# Altium schematic symbol library Schematic Diagrams_Lights.SchLib: 171 symbols (part 2 of 4)
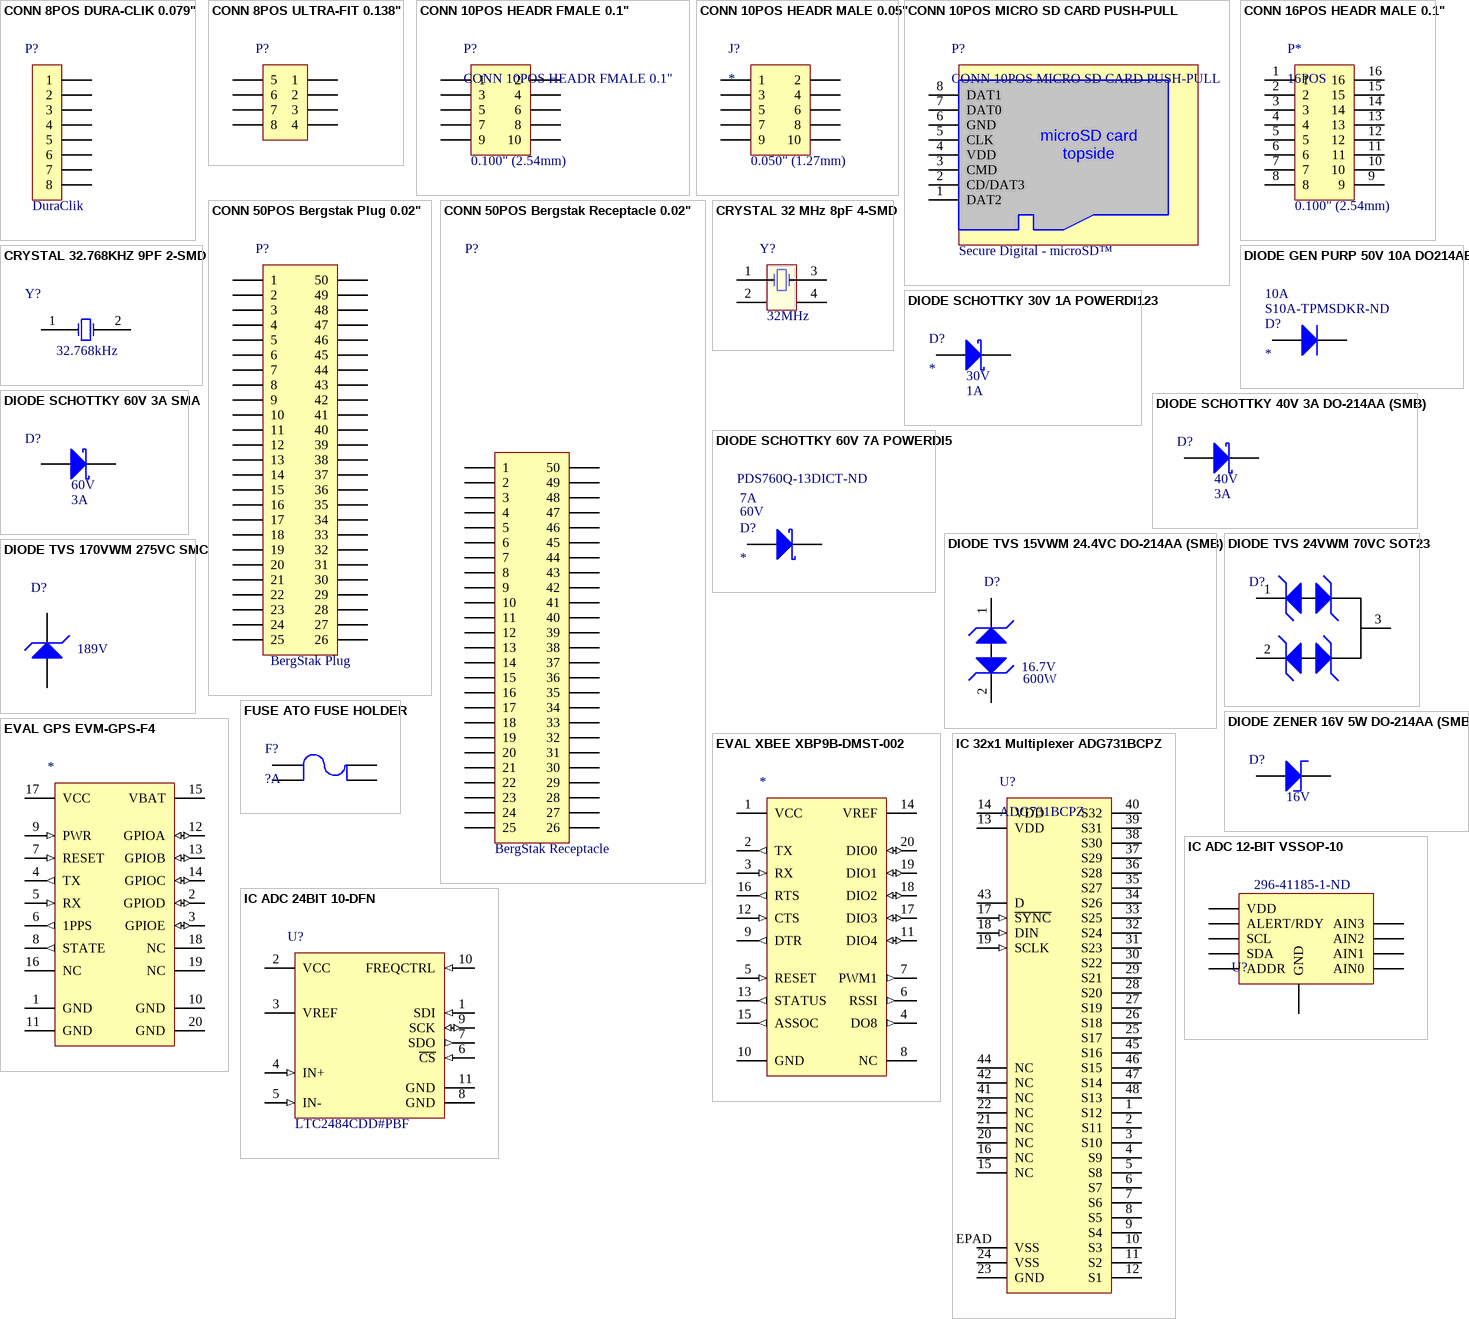
[diagram p6: symbols CONN 8POS DURA-CLIK 0.079" to IC ADC 24BIT 10-DFN]

## CONN 8POS ULTRA-FIT 0.138"
designator P?  (value not drawn)
8 Positions Header Connector 0.138" (3.50mm) Through Hole Tin; Manufacturer: Molex, LLC; Manufacturer Part Number: 1722991108; Style: Board to Cable/Wire; Shrouding: Shrouded - 4 Wall; Number of Positions: 8; Number of Positions Loaded: All; Row Spacing - Mating: 0.181" (4.60mm); Contact Length - Post: 0.126" (3.20mm); Material Flammability Rating: UL94 V-0; Voltage Rating: 400V; Mated Stacking Heights: 26.99mm; Supplier 1: Digi-Key; RoHS: RoHS Compliant; Category: Connectors, Interconnects; Stock 1: 60; Pricing 1: 1=2.12, 10=1.923, 50=1.7262, 100=1.6478, 250=1.49084, 500=1.37314, 1000=1.17697, 2500=1.0985, 5000=1.04358 (CAD); Packaging: Tray; Part Status: Active; Connector Type: Header; Contact Type: Male Pin; Pitch - Mating: 0.138" (3.50mm); Number of Rows: 2; Mounting Type: Through Hole; Termination: Solder; Fastening Type: Latch Holder; Contact Length - Mating: -; Overall Contact Length: -; Insulation Height: 0.465" (11.80mm); Contact Shape: Square; Contact Finish - Mating: Tin; Contact Finish Thickness - Mating: 60µin (1.52µm); Contact Finish - Post: Tin; Contact Material: Copper Alloy; Insulation Material: Liquid Crystal Polymer (LCP); Features: Board Guide, Solder Retention; Operating Temperature: -40°C ~ 105°C; Ingress Protection: -; Insulation Color: Black; Current Rating: -; Contact Finish Thickness - Post: 60µin (1.52µm); Applications: Automotive, General Purpose, Industrial, Lighting, Medical, Military, Telecommunications; ComponentLink1URL: http://www.molex.com/pdm_docs/sd/1722991108_sd.pdf; ComponentLink1Description: http://www.molex.com/pdm_docs/sd/1722991108_sd.pdf; Supplier Part Number 1: WM11779-ND
footprint CONN, 8POS ULTRA-FIT
pins: 1, 2, 3, 4, 5, 6, 7, 8

## CONN 10POS HEADR FMALE 0.1"
designator P?  Pitch - Mating: 0.100" (2.54mm)
10 Position Header Connector 0.100" (2.54mm) Through Hole, Right Angle Gold; Manufacturer 1: Sullins Connector Solutions; Manufacturer Part Number 1: SFH11-PBPC-D05-RA-BK; Style: Board to Board; Number of Positions: 10; Number of Positions Loaded: All; Contact Length - Post: 0.106" (2.69mm); Material Flammability Rating: UL94 V-0; Current Rating: 3A; Supplier 1: Digi-Key; Supplier Part Number 1: S9202-ND; Packaging: Tray; Part Status: Active; Connector Type: Header; Contact Type: Female Socket; Number of Rows: 2; Row Spacing - Mating: 0.100" (2.54mm); Mounting Type: Through Hole, Right Angle; Termination: Solder; Fastening Type: Push-Pull; Contact Finish - Mating: Gold; Contact Finish Thickness - Mating: Flash; Insulation Color: Black; Insulation Height: 0.236" (6.00mm); Operating Temperature: -40°C ~ 105°C; Contact Finish - Post: Gold; Mated Stacking Heights: -; Ingress Protection: -; Insulation Material: Polybutylene Terephthalate (PBT); Contact Shape: Square; Contact Material: Brass; Contact Finish Thickness - Post: Flash; ComponentLink1URL: http://sullinscorp.com/catalogs/147_PAGE119_.100_SFH11_SERIES_FEMALE_HDR_ST_RA.pdf; ComponentLink1Description: http://sullinscorp.com/catalogs/147_PAGE119_.100_SFH11_SERIES_FEMALE_HDR_ST_RA.pdf; Voltage: -
footprint CONN ,10 POS Header 0.100"
pins: 1, 2, 3, 4, 5, 6, 7, 8, 9, 10

## CONN 10POS HEADR MALE 0.05"
designator J?  Pitch - Mating: 0.050" (1.27mm)
10 Positions Header Connector 0.050" (1.27mm) Surface Mount Gold; Manufacturer 1: Amphenol FCI; Manufacturer Part Number 1: 20021121-00010C4LF; Style: Board to Board; Shrouding: Unshrouded; Number of Positions: 10; Number of Positions Loaded: All; Contact Length - Mating: 0.120" (3.05mm); Material Flammability Rating: UL94 V-0; Supplier 1: Digi-Key; Supplier Part Number 1: 609-3695-1-ND; Packaging: Cut Tape (CT); Part Status: Active; Connector Type: Header; Contact Type: Male Pin; Number of Rows: 2; Row Spacing - Mating: 0.050" (1.27mm); Mounting Type: Surface Mount; Termination: Solder; Fastening Type: -; Contact Length - Post: -; Overall Contact Length: -; Insulation Height: -; Contact Shape: Square; Contact Finish - Mating: Gold; Contact Finish Thickness - Mating: 10µin (0.25µm); Contact Finish - Post: Tin; Contact Material: Copper Alloy; Insulation Material: Thermoplastic; Operating Temperature: -; Ingress Protection: -; Insulation Color: Black; Current Rating: -; Mated Stacking Heights: -; Contact Finish Thickness - Post: 50µin (1.27µm); ComponentLink1URL: http://portal.fciconnect.com/Comergent//fci/drawing/20021121.pdf; ComponentLink1Description: http://portal.fciconnect.com/Comergent//fci/drawing/20021121.pdf; Voltage: -
footprint CONN, 10POS 0.05" Debug Header (Amphenol 10 Positions Header Connector 0.050" (1.27mm) Surface Mount Gold)
pins: 1, 2, 3, 4, 5, 6, 7, 8, 9, 10

## CONN 10POS MICRO SD CARD PUSH-PULL
designator P?  Card Type: Secure Digital - microSD™
10 (8 + 2) Position Card Connector Secure Digital - microSD™ Surface Mount, Right Angle Gold; Manufacturer 1: Amphenol Commercial Products; Manufacturer Part Number 1: 114-00841-68; Insertion, Removal Method: Push In, Pull Out; Supplier 1: Digi-Key; Supplier Part Number 1: 114-00841-68-1-ND; Packaging: Cut Tape (CT); Part Status: Active; Number of Positions: 10 (8 + 2); Connector Type: Connector; Ejector Side: -; Mounting Type: Surface Mount, Right Angle; Height Above Board: 0.061" (1.55mm); Mounting Feature: Normal, Standard - Top; Contact Finish: Gold; Contact Finish Thickness: 15µin (0.38µm); ComponentLink1URL: https://www.amphenolcanada.com/ProductSearch/drawings/AC/1140084168.pdf; ComponentLink1Description: https://www.amphenolcanada.com/ProductSearch/drawings/AC/1140084168.pdf
footprint CONN, SD Reader (101-00313-68-02CT-ND)
pins: 1 DAT2, 2 CD/DAT3, 3 CMD, 4 VDD, 5 CLK, 6 GND, 7 DAT0, 8 DAT1
text: microSD card / topside

## CONN 16POS HEADR MALE 0.1"
designator P*, comment 16POS  Pitch - Mating: 0.100" (2.54mm)
CONN HEADER .100" DUAL STR 16POS; Manufacturer 1: Sullins Connector Solutions; Manufacturer Part Number 1: PREC008DAAN-RC; Connector Type: Header, Breakaway; Style: Board to Board or Cable; Shrouding: Unshrouded; Number of Positions: 16; Number of Positions Loaded: All; Contact Length - Mating: 0.230" (5.84mm); Contact Length - Post: 0.120" (3.05mm); Overall Contact Length: 0.448" (11.39mm); Material Flammability Rating: UL94 V-0; Current Rating: 3A per Contact; Supplier 1: Digi-Key; Supplier Part Number 1: S2012EC-08-ND; Packaging: Bulk; Part Status: Active; Contact Type: Male Pin; Number of Rows: 2; Row Spacing - Mating: 0.100" (2.54mm); Mounting Type: Through Hole; Termination: Solder; Fastening Type: -; Insulation Height: 0.098" (2.50mm); Contact Shape: Square; Contact Finish - Mating: Tin; Contact Finish Thickness - Mating: -; Contact Finish - Post: Tin; Contact Material: Brass; Insulation Material: Polybutylene Terephthalate (PBT); Operating Temperature: -40°C ~ 105°C; Ingress Protection: -; Insulation Color: Black; Mated Stacking Heights: -; Contact Finish Thickness - Post: -; ComponentLink1URL: http://sullinscorp.com/drawings/294___R__C_____D___N-RC,_11636.pdf; ComponentLink1Description: http://sullinscorp.com/drawings/294___R__C_____D___N-RC,_11636.pdf; Voltage: -
footprint CONN, 16POS 0.100" Header
pins: 1, 2, 3, 4, 5, 6, 7, 8, 9, 10, 11, 12, 13, 14, 15, 16

## CONN 50POS Bergstak Plug 0.02"
designator P?  Series: BergStak Plug
50 Position Connector Plug, Outer Shroud Contacts Surface Mount Gold; Manufacturer 1: Amphenol FCI; Manufacturer Part Number 1: 10132797-055100LF; Number of Positions: 50; Mated Stacking Heights: 5mm; Pitch: 0.020" (0.50mm); Supplier 1: Digi-Key; Supplier Part Number 1: 609-5226-1-ND; Packaging: Cut Tape (CT); Part Status: Active; Connector Type: Plug, Outer Shroud Contacts; Number of Rows: 2; Mounting Type: Surface Mount; Contact Finish: Gold; Contact Finish Thickness: 1µin (0.025µm); Height Above Board: 0.169" (4.30mm); ComponentLink1URL: http://portal.fciconnect.com/Comergent//fci/drawing/10132797.pdf; ComponentLink1Description: http://portal.fciconnect.com/Comergent//fci/drawing/10132797.pdf
footprint CONN, Bergstak 50 Pos Plug (Bergstak 50 Position Plug)
pins: 1, 2, 3, 4, 5, 6, 7, 8, 9, 10, 11, 12, 13, 14, 15, 16, 17, 18, 19, 20, 21, 22, 23, 24, 25, 26, 27, 28, 29, 30, 31, 32, 33, 34, 35, 36, 37, 38, 39, 40, 41, 42, 43, 44, 45, 46, 47, 48, 49, 50

## CONN 50POS Bergstak Receptacle 0.02"
designator P?  Series: BergStak Receptacle
50 Position Connector Receptacle, Center Strip Contacts Surface Mount Gold; Manufacturer 1: Amphenol FCI; Manufacturer Part Number 1: 10132798-052100LF; Number of Positions: 50; Mated Stacking Heights: 5mm, 5.5mm, 6mm; Pitch: 0.020" (0.50mm); Supplier 1: Digi-Key; Supplier Part Number 1: 609-5227-1-ND; Packaging: Cut Tape (CT); Part Status: Active; Connector Type: Receptacle, Center Strip Contacts; Number of Rows: 2; Mounting Type: Surface Mount; Contact Finish: Gold; Contact Finish Thickness: 1µin (0.025µm); Height Above Board: 0.106" (2.70mm); ComponentLink1URL: http://portal.fciconnect.com/Comergent//fci/drawing/10132798.pdf; ComponentLink1Description: http://portal.fciconnect.com/Comergent//fci/drawing/10132798.pdf
footprint CONN, Bergstak 50 Pos Receptacle (Bergstak 50 Position Receptacle)
pins: 1, 2, 3, 4, 5, 6, 7, 8, 9, 10, 11, 12, 13, 14, 15, 16, 17, 18, 19, 20, 21, 22, 23, 24, 25, 26, 27, 28, 29, 30, 31, 32, 33, 34, 35, 36, 37, 38, 39, 40, 41, 42, 43, 44, 45, 46, 47, 48, 49, 50

## CRYSTAL 32 MHz 8pF 4-SMD
designator Y?  Frequency: 32MHz
32MHz ±15ppm Crystal 8pF 50 Ohm -40°C ~ 85°C AEC-Q200 Surface Mount 4-SMD, No Lead; Manufacturer 1: AVX Corp/Kyocera Corp; Manufacturer Part Number 1: CX2520DB32000D0GPSC1; Frequency Stability: ±50ppm; ESR (Equivalent Series Resistance): 50 Ohm; Operating Mode: Fundamental; Supplier 1: Digi-Key; Supplier Part Number 1: 1253-1730-1-ND; Packaging: Cut Tape (CT); Part Status: Active; Type: MHz Crystal; Frequency Tolerance: ±15ppm; Operating Temperature: -40°C ~ 85°C; Ratings: AEC-Q200; Mounting Type: Surface Mount; Package / Case: 4-SMD, No Lead; Size / Dimension: 0.098" L x 0.079" W (2.50mm x 2.00mm); Height - Seated (Max): 0.022" (0.55mm); ComponentLink1URL: http://media.digikey.com/pdf/Data%20Sheets/AVX%20PDFs/CX2520DB_USY1M-H1-16428-00_Spec.pdf; ComponentLink1Description: http://media.digikey.com/pdf/Data%20Sheets/AVX%20PDFs/CX2520DB_USY1M-H1-16428-00_Spec.pdf; Load Capacitance: 8pF
footprint CX2520DB CRYSTAL
pins: 1 OSC1, 2, 3 OSC2, 4 3

## CRYSTAL 32.768KHZ 9PF 2-SMD
designator Y?  Frequency: 32.768kHz
32.768kHz ±20ppm Crystal 6pF 50 kOhm -40°C ~ 85°C Surface Mount 4-SOJ, 5.50mm pitch; Manufacturer 1: Abracon LLC; Manufacturer Part Number 1: ABS07AIG-32.768KHZ-9-1-T; Frequency Tolerance: ±10ppm; Load Capacitance: 9pF; ESR (Equivalent Series Resistance): 70 kOhm; Operating Mode: Fundamental; Supplier 1: Digi-Key; Supplier Part Number 1: 535-13353-1-ND; Packaging: Cut Tape (CT); Part Status: Active; Type: kHz Crystal (Tuning Fork); Frequency Stability: -; Operating Temperature: -40°C ~ 125°C; Ratings: AEC-Q200; Mounting Type: Surface Mount; Package / Case: 2-SMD, No Lead; Size / Dimension: 0.126" L x 0.059" W (3.20mm x 1.50mm); Height - Seated (Max): 0.035" (0.90mm); ComponentLink1URL: http://www.abracon.com/AIGcrystals/ABS07AIG.pdf; ComponentLink1Description: http://www.abracon.com/AIGcrystals/ABS07AIG.pdf
footprint ABS07AIG CRYSTAL
pins: 1, 2

## DIODE GEN PURP 50V 10A DO214AB
designator D?  Current - Average Rectified (Io): 10A  Supplier Part Number 1: S10A-TPMSDKR-ND
Diode Standard 50V 10A Surface Mount DO-214AB (HSMC); Manufacturer: Micro Commercial Co; Manufacturer Part Number: S10A-TP; Speed: Standard Recovery >500ns, > 200mA (Io); Supplier 1: Digi-Key; RoHS: RoHS Compliant; Category: Discrete Semiconductor Products; Stock 1: 9038; Pricing 1: 1=0.87, 10=0.758, 25=0.6708, 100=0.5843, 250=0.5086, 500=0.43286 (CAD); Packaging: Digi-Reel®; Part Status: Active; Diode Type: Standard; Capacitance @ Vr, F: -; Mounting Type: Surface Mount; Package / Case: DO-214AB, SMC; Supplier Device Package: DO-214AB (HSMC); Operating Temperature - Junction: -55°C ~ 150°C; Base Part Number: S10A; ComponentLink1URL: http://www.mccsemi.com/up_pdf/S10A~S10M(HSMC).PDF; ComponentLink1Description: http://www.mccsemi.com/up_pdf/S10A~S10M(HSMC).PDF
footprint DIOM6160X51N (Molded Diode, 2-Leads, Body 6.13x6.02mm, IPC Medium Density)
pins: 1 A, 2 K

## DIODE SCHOTTKY 30V 1A POWERDI123
designator D?  Current - Average Rectified (Io): 1A  Voltage - DC Reverse (Vr) (Max): 30V
Diode Schottky 30V 1A Surface Mount PowerDI™ 123; Manufacturer: Diodes Incorporated; Manufacturer Part Number: DFLS130L-7; Speed: Fast Recovery =< 500ns, > 200mA (Io); Current - Reverse Leakage @ Vr: 1mA @ 30V; Capacitance @ Vr, F: 76pF @ 10V, 1MHz; Voltage - Forward (Vf) (Max) @ If: 310mV @ 1A; Supplier 1: Digi-Key; RoHS: RoHS Compliant; Category: Discrete Semiconductor Products; Stock 1: 68200; Packaging: Cut Tape (CT); Part Status: Active; Diode Type: Schottky; Mounting Type: Surface Mount; Package / Case: POWERDI®123; Supplier Device Package: PowerDI™ 123; Operating Temperature - Junction: -40°C ~ 125°C; ComponentLink1URL: https://www.diodes.com/assets/Datasheets/ds30492.pdf; ComponentLink1Description: https://www.diodes.com/assets/Datasheets/ds30492.pdf; Supplier Part Number 1: DFLS130LDICT-ND; Pricing 1: 1=0.7, 10=0.599, 100=0.447, 500=0.35126, 1000=0.27142 (CAD)
footprint DIODE SCHOTTKY 30V 1A POWERDI123 (Diodes Incorporated DFLS130L-7)
pins: 1 A, 2 K

## DIODE SCHOTTKY 40V 3A DO-214AA (SMB)
designator D?  Voltage - DC Reverse (Vr) (Max): 40V  Current - Average Rectified (Io): 3A
Diode Schottky 40V 3A Surface Mount DO-214AA (SMB); Manufacturer 1: Comchip Technology; Manufacturer Part Number 1: CDBB340-HF; Voltage - Forward (Vf) (Max) @ If: 500mV @ 3A; Speed: Fast Recovery =< 500ns, > 200mA (Io); Current - Reverse Leakage @ Vr: 500µA @ 40V; Capacitance @ Vr, F: 250pF @ 4V, 1MHz; Supplier 1: Digi-Key; Supplier Part Number 1: 641-1722-1-ND; Packaging: Cut Tape (CT); Part Status: Active; Diode Type: Schottky; Mounting Type: Surface Mount; Package / Case: DO-214AA, SMB; Supplier Device Package: DO-214AA (SMB); Operating Temperature - Junction: -40°C ~ 70°C; ComponentLink1URL: http://www.comchiptech.com/cms/UserFiles/CDBB340-HF%20Thru849517.%20CDBB3100-HF%20RevE.pdf; ComponentLink1Description: http://www.comchiptech.com/cms/UserFiles/CDBB340-HF%20Thru849517.%20CDBB3100-HF%20RevE.pdf
footprint DO-214AA Diode (Zener Diode 16V 5W SMBJ5353B-TP)
pins: 1 A, 2 K

## DIODE SCHOTTKY 60V 3A SMA
designator D?  Voltage - DC Reverse (Vr) (Max): 60V  Current - Average Rectified (Io): 3A
Diode Schottky 60V 3A Surface Mount SMA; Manufacturer 1: Diodes Incorporated; Manufacturer Part Number 1: B360A-13-F; Voltage - Forward (Vf) (Max) @ If: 700mV @ 3A; Speed: Fast Recovery =< 500ns, > 200mA (Io); Current - Reverse Leakage @ Vr: 500µA @ 60V; Capacitance @ Vr, F: 200pF @ 4V, 1MHz; Supplier 1: Digi-Key; Supplier Part Number 1: B360A-FDICT-ND; Packaging: Cut Tape (CT); Part Status: Active; Diode Type: Schottky; Mounting Type: Surface Mount; Package / Case: DO-214AC, SMA; Supplier Device Package: SMA; Operating Temperature - Junction: -55°C ~ 150°C; ComponentLink1URL: https://www.diodes.com/assets/Datasheets/ds30891.pdf; ComponentLink1Description: https://www.diodes.com/assets/Datasheets/ds30891.pdf
footprint SMA
pins: 1, 2

## DIODE SCHOTTKY 60V 7A POWERDI5
designator D?  Current - Average Rectified (Io): 7A  Supplier Part Number 2: PDS760Q-13DICT-ND  Voltage: 60V
Diode Schottky 60V 7A Surface Mount PowerDI™ 5; Manufacturer: Diodes Incorporated; Manufacturer Part Number: PDS760Q-13; Speed: Fast Recovery =< 500ns, > 200mA (Io); Supplier 1: Digi-Key; RoHS: RoHS Compliant; Category: Discrete Semiconductor Products; Stock 1: 35000; Pricing 1: 5000=0.48794, 10000=0.4696 (CAD); Packaging: Tape & Reel (TR); Part Status: Active; Diode Type: Schottky; Capacitance @ Vr, F: -; Mounting Type: Surface Mount; Package / Case: PowerDI™ 5; Supplier Device Package: PowerDI™ 5; Operating Temperature - Junction: -65°C ~ 150°C; ComponentLink1URL: https://www.diodes.com/assets/Datasheets/PDS760Q.pdf; ComponentLink1Description: https://www.diodes.com/assets/Datasheets/PDS760Q.pdf; Supplier 2: Digi-Key; Stock 2: 36638; Pricing 2: 1=1.24, 10=1.115, 100=0.8692, 500=0.71798, 1000=0.56682 (CAD)
footprint DIODE SCHOTTKY 60V 7A POWERDI5 (Diode Schottky 60V 7A Surface Mount PowerDI™ 5)
pins: 1, 2

## DIODE TVS 15VWM 24.4VC DO-214AA (SMB)
designator D?  Voltage - Breakdown (Min): 16.7V  Power - Peak Pulse: 600W  (hidden comment: *)
TVS DIODE 15VWM 24.4VC SMB; Manufacturer 1: Fairchild/ON Semiconductor; Manufacturer Part Number 1: SMBJ15CA; Type: Zener; Voltage - Reverse Standoff (Typ): 15V; Voltage - Clamping (Max) @ Ipp: 24.4V; Current - Peak Pulse (10/1000µs): 24.6A; Power Line Protection: No; Supplier 1: Digi-Key; Supplier Part Number 1: SMBJ15CAFSCT-ND; RoHS: RoHS Compliant; Description 1: TVS DIODE 15VWM 24.4VC SMB; Category: Circuit Protection; Stock 1: 24965; Pricing 1: 1=0.54, 10=0.444, 100=0.3027, 500=0.22704, 1000=0.17028 (CAD); Packaging: Cut Tape (CT); Part Status: Active; Applications: General Purpose; Capacitance @ Frequency: -; Operating Temperature: -55°C ~ 150°C (TJ); Mounting Type: Surface Mount; Package / Case: DO-214AA, SMB; Supplier Device Package: DO-214AA (SMB); ComponentLink1URL: https://www.fairchildsemi.com/datasheets/SM/SMBJ10CA.pdf; ComponentLink1Description: https://www.fairchildsemi.com/datasheets/SM/SMBJ10CA.pdf
footprint DO-214AA Diode (Zener Diode 16V 5W SMBJ5353B-TP)
pins: 1 Cathode1, 2 Cathode2

## DIODE TVS 24VWM 70VC SOT23
designator D?
TVS DIODE 24VWM 70VC SOT23; Manufacturer 1: Nexperia USA Inc.; Manufacturer Part Number 1: PESD1CAN,215; Type: Zener; Voltage - Breakdown (Min): 25.4V; Voltage - Clamping (Max) @ Ipp: 70V; Current - Peak Pulse (10/1000µs): 3A (8/20µs); Power - Peak Pulse: 200W; Power Line Protection: No; Capacitance @ Frequency: 11pF @ 1MHz; Supplier 1: Digi-Key; Supplier Part Number 1: 1727-3817-1-ND; Packaging: Cut Tape (CT); Part Status: Active; Operating Temperature: -65°C ~ 150°C (TA); Mounting Type: Surface Mount; Package / Case: TO-236-3, SC-59, SOT-23-3; Supplier Device Package: SOT-23 (TO-236AB); ComponentLink1URL: http://assets.nexperia.com/documents/data-sheet/PESD1CAN.pdf; ComponentLink1Description: http://assets.nexperia.com/documents/data-sheet/PESD1CAN.pdf
footprint SOT23 (SOT23, 3-Leads, Body 2.9x1.3mm, Pitch 0.95mm, Lead Span 2.3mm - Reverse Pinning, IPC Medium Density)
pins: 1 Cathode1, 2 Cathode2, 3 Common_Cathode (power)

## DIODE TVS 170VWM 275VC SMC
designator D?  Voltage - DC Reverse (Vr) (Max): 189V
TVS DIODE 170VWM 275VC SMC; Manufacturer 1: Diodes Incorporated; Manufacturer Part Number 1: B360A-13-F; Diode Type: Schottky; Voltage - Forward (Vf) (Max) @ If: 700mV @ 3A; Speed: Fast Recovery =< 500ns, > 200mA (Io); Current - Reverse Leakage @ Vr: 500µA @ 60V; Capacitance @ Vr, F: 200pF @ 4V, 1MHz; Type: Zener; Voltage - Reverse Standoff (Typ): 170V; Voltage - Clamping (Max) @ Ipp: 275V; Current - Peak Pulse (10/1000µs): 5.5A; Power - Peak Pulse: 1500W (1.5kW); Power Line Protection: No; Supplier 1: Digi-Key; Supplier Part Number 1: B360A-FDICT-ND; Packaging: Cut Tape (CT); Part Status: Active; Mounting Type: Surface Mount; Package / Case: DO-214AC, SMA; Supplier Device Package: SMA; Operating Temperature - Junction: -55°C ~ 150°C; ComponentLink1URL: https://www.diodes.com/assets/Datasheets/ds30891.pdf; ComponentLink1Description: https://www.diodes.com/assets/Datasheets/ds30891.pdf; Supplier 2: Digi-Key; Supplier Part Number 2: SMCJ170A-FDICT-ND; Manufacturer 2: Diodes Incorporated; Manufacturer Part Number 2: SMCJ170A-13-F; RoHS: RoHS Compliant; Description 2: TVS DIODE 170VWM 275VC SMC; Category: Circuit Protection; Stock 2: 8020; Pricing 2: 1=0.97, 10=0.827, 100=0.6174, 500=0.48508, 1000=0.37484 (CAD); Voltage - Breakdown (Min): 189V; Applications: General Purpose; Capacitance @ Frequency: -; Operating Temperature: -55°C ~ 150°C (TJ); ComponentLink2URL: https://www.diodes.com/assets/Datasheets/ds19003.pdf; ComponentLink2Description: https://www.diodes.com/assets/Datasheets/ds19003.pdf
footprint DIODE, SMC
pins: 1, 2

## DIODE ZENER 16V 5W DO-214AA (SMB)
designator D?  Voltage - Zener (Nom): 16V
Zener Diode 16V 5W ±5% Surface Mount DO-214AA (SMB); Manufacture: Micro Commercial Co; Manufacture Part Number: SMBJ5353B-TP; Impedence (Max): 2.5 Ohm; Voltage - Forward: 1.2V @ 1A; Power (Max): 5W; Supplier 1: Digi-Key; Supplier Part Number 1: SMBJ5353B-TPMSCT-ND
footprint DO-214AA Diode (Zener Diode 16V 5W SMBJ5353B-TP)
pins: 1 A, 2 K

## EVAL GPS EVM-GPS-F4
designator *
BOARD EVAL FOR RXM-GPS-F4; Manufacturer 1: Linx Technologies Inc.; Manufacturer Part Number 1: EVM-GPS-F4; Frequency: 1575.42MHz; Supplier 1: Digi-Key; Supplier Part Number 1: EVM-GPS-F4-ND; Part Status: Active; Type: GPS; For Use With/Related Products: RXM-GPS-F4; Supplied Contents: Board; ComponentLink1URL: https://www.linxtechnologies.com/resources/data-guides/man-evm-gps-f4.pdf; ComponentLink1Description: https://www.linxtechnologies.com/resources/data-guides/man-evm-gps-f4.pdf
pins: 1 GND (power), 2 GPIOD (io), 3 GPIOE (io), 4 TX (out), 5 RX (in), 6 1PPS (out), 7 RESET (in), 8 STATE (out), 9 PWR (in), 10 GND (power), 11 GND (power), 12 GPIOA (io), 13 GPIOB (io), 14 GPIOC (io), 15 VBAT (power), 16 NC, 17 VCC (power), 18 NC, 19 NC, 20 GND (power)

## EVAL XBEE XBP9B-DMST-002
designator *
RF TXRX MODULE ISM<1GHZ RP-SMA; Manufacturer 1: Digi International; Manufacturer Part Number 1: XBP9B-DMST-002; RF Family/Standard: General ISM < 1GHz; Modulation: FHSS; Frequency: 900MHz; Data Rate: 200kbps; Power - Output: 24dBm; Sensitivity: -110dBm; Serial Interfaces: SPI, UART; Antenna Type: Not Included, RP-SMA; Memory Size: 32kB Flash, 2kB RAM; Voltage - Supply: 2.4 V ~ 3.6 V; Current - Receiving: 44mA; Current - Transmitting: 229mA; Supplier 1: Digi-Key; Supplier Part Number 1: 602-1299-ND; Packaging: Bulk; Part Status: Active; Protocol: -; Mounting Type: Through Hole; Operating Temperature: -40°C ~ 85°C; Package / Case: Module; ComponentLink1URL: https://www.digi.com/pdf/ds_xbeepro900hp.pdf; ComponentLink1Description: https://www.digi.com/pdf/ds_xbeepro900hp.pdf
pins: 1 VCC (power), 2 TX (out), 3 RX (in), 4 DO8 (out) "Not Supported", 5 RESET (in), 6 RSSI (out) "RX Signal Strength Indicator", 7 PWM1 (out), 8 NC, 9 DTR (out), 10 GND, 11 DIO4 (io), 12 CTS (in), 13 STATUS (out), 14 VREF (power), 15 ASSOC (out) "Associated Indicator", 16 RTS (out), 17 DIO3 (io), 18 DIO2 (io), 19 DIO1 (io), 20 DIO0 (io)

## FUSE ATO FUSE HOLDER
designator F?, comment ?A
Fuse Block 30A 500V 1 Circuit Blade PCB; Manufacturer 1: Keystone Electronics; Manufacturer Part Number 1: 3557-2; Description 1: FUSE BLOCK BLADE 500V 30A PCB; For Use With/Related Products: ATC, ATO 257, MINI 897; Fuse Size: 0.43" L x 0.15" W x 0.64" H (10.92mm x 3.81mm x 16.25mm); Number of Circuits: 1; Supplier 1: Digi-Key; Supplier Part Number 1: 36-3557-2-ND; RoHS: RoHS Compliant; Category: Circuit Protection; Stock 1: 48838; Pricing 1: 1=1.66, 10=1.442, 50=1.3008, 100=1.2441, 250=1.13096, 500=1.01784, 1000=1.0126, 2500=0.84861, 5000=0.81519 (CAD); Part Status: Active; Fuseholder Type: Block; Fuse Type: Blade; Voltage: 500V; Current Rating: 30A; Mounting Type: PCB; Orientation: Vertical; Termination Style: PC Pin; Contact Material: Brass; Contact Finish: Tin Nickel; ComponentLink1URL: http://www.keyelco.com/product-pdf.cfm?p=296; ComponentLink1Description: http://www.keyelco.com/product-pdf.cfm?p=296
footprint FUSE ATO/ATC FUSE HOLDER
pins: 1, 2, 3, 4

## IC 32x1 Multiplexer ADG731BCPZ
designator U?, comment ADG731BCPZ
IC MULTIPLEXER 32X1 48LFCSP; Manufacturer: Analog Devices Inc.; Supplier 1: Digi-Key; Supplier Part Number 1: ADG731BCPZ-ND; Manufacturer Part Number: ADG731BCPZ
pins: 1 S12, 2 S11, 3 S10, 4 S9, 5 S8, 6 S7, 7 S6, 8 S5, 9 S4, 10 S3, 11 S2, 12 S1, 13 VDD (power), 14 VDD (power), 15 NC, 16 NC, 17 ~{SYNC} (in), 18 DIN (in), 19 SCLK (in), 20 NC, 21 NC, 22 NC, 23 GND (power), 24 VSS (power), 25 S17, 26 S18, 27 S19, 28 S20, 29 S21, 30 S22, 31 S23, 32 S24, 33 S25, 34 S26, 35 S27, 36 S28, 37 S29, 38 S30, 39 S31, 40 S32, 41 NC, 42 NC, 43 D, 44 NC, 45 S16, 46 S15, 47 S14, 48 S13, EPAD VSS (power)

## IC ADC 12-BIT VSSOP-10
designator U?, comment Supplier Part Number 1: 296-41185-1-ND  (hidden comment: Quad ADC)
12 Bit Analog to Digital Converter 4 Input 1 Sigma-Delta 10-VSSOP; Manufacturer: Texas Instruments; Manufacturer Part Number: ADS1015IDGSR; Number of Bits: 12; Sampling Rate (Per Second): 3.3k; Number of Inputs: 2, 4; Input Type: Differential, Single Ended; Data Interface: I²C; Configuration: MUX-PGA-ADC; Number of A/D Converters: 1; Reference Type: Internal; Voltage - Supply, Analog: 2 V ~ 5.5 V; Supplier 1: Digi-Key; RoHS: RoHS Compliant; Category: Integrated Circuits (ICs); Stock 1: 4084; Pricing 1: 1=4.25, 10=3.807, 100=3.1194, 500=2.65552, 1000=2.23959 (CAD); Packaging: Cut Tape (CT); Part Status: Active; Ratio - S/H:ADC: -; Architecture: Sigma-Delta; Voltage - Supply, Digital: 2 V ~ 5.5 V; Features: PGA, Selectable Address; Operating Temperature: -40°C ~ 125°C; Package / Case: 10-TFSOP, 10-MSOP (0.118", 3.00mm Width); Supplier Device Package: 10-VSSOP; ComponentLink1URL: http://www.ti.com/lit/ds/symlink/ads1013.pdf; ComponentLink1Description: http://www.ti.com/lit/ds/symlink/ads1013.pdf
footprint IC ADC VSSOP10
pins: 1 ADDR, 2 ALERT/RDY, 3 GND, 4 AIN0, 5 AIN1, 6 AIN2, 7 AIN3, 8 VDD, 9 SDA, 10 SCL

## IC ADC 24BIT 10-DFN
designator U?  Manufacturer Part Number 1: LTC2484CDD#PBF
24 Bit Analog to Digital Converter 1 Input 1 Sigma-Delta 10-DFN (3x3); Manufacturer 1: Linear Technology; Number of Bits: 24; Sampling Rate (Per Second): 7.5; Number of Inputs: 1; Input Type: Differential; Data Interface: SPI; Configuration: MUX-ADC; Reference Type: External; Voltage - Supply, Analog: 2.7 V ~ 5.5 V; Supplier 1: Digi-Key; Supplier Part Number 1: LTC2484CDD#PBF-ND; Packaging: Tube; Part Status: Active; Ratio - S/H:ADC: -; Number of A/D Converters: 1; Architecture: Sigma-Delta; Voltage - Supply, Digital: 2.7 V ~ 5.5 V; Operating Temperature: 0°C ~ 70°C; Package / Case: 10-WFDFN Exposed Pad; Supplier Device Package: 10-DFN (3x3); ComponentLink1URL: http://www.linear.com/docs/7978; ComponentLink1Description: http://www.linear.com/docs/7978
footprint IC ADC LTC2484 10-DFN
pins: 1 SDI (in), 2 VCC (power), 3 VREF (power), 4 IN+ (in), 5 IN- (in), 6 ~{CS} (in), 7 SDO (out), 8 GND (power), 9 SCK (io), 10 FREQCTRL (in), 11 GND

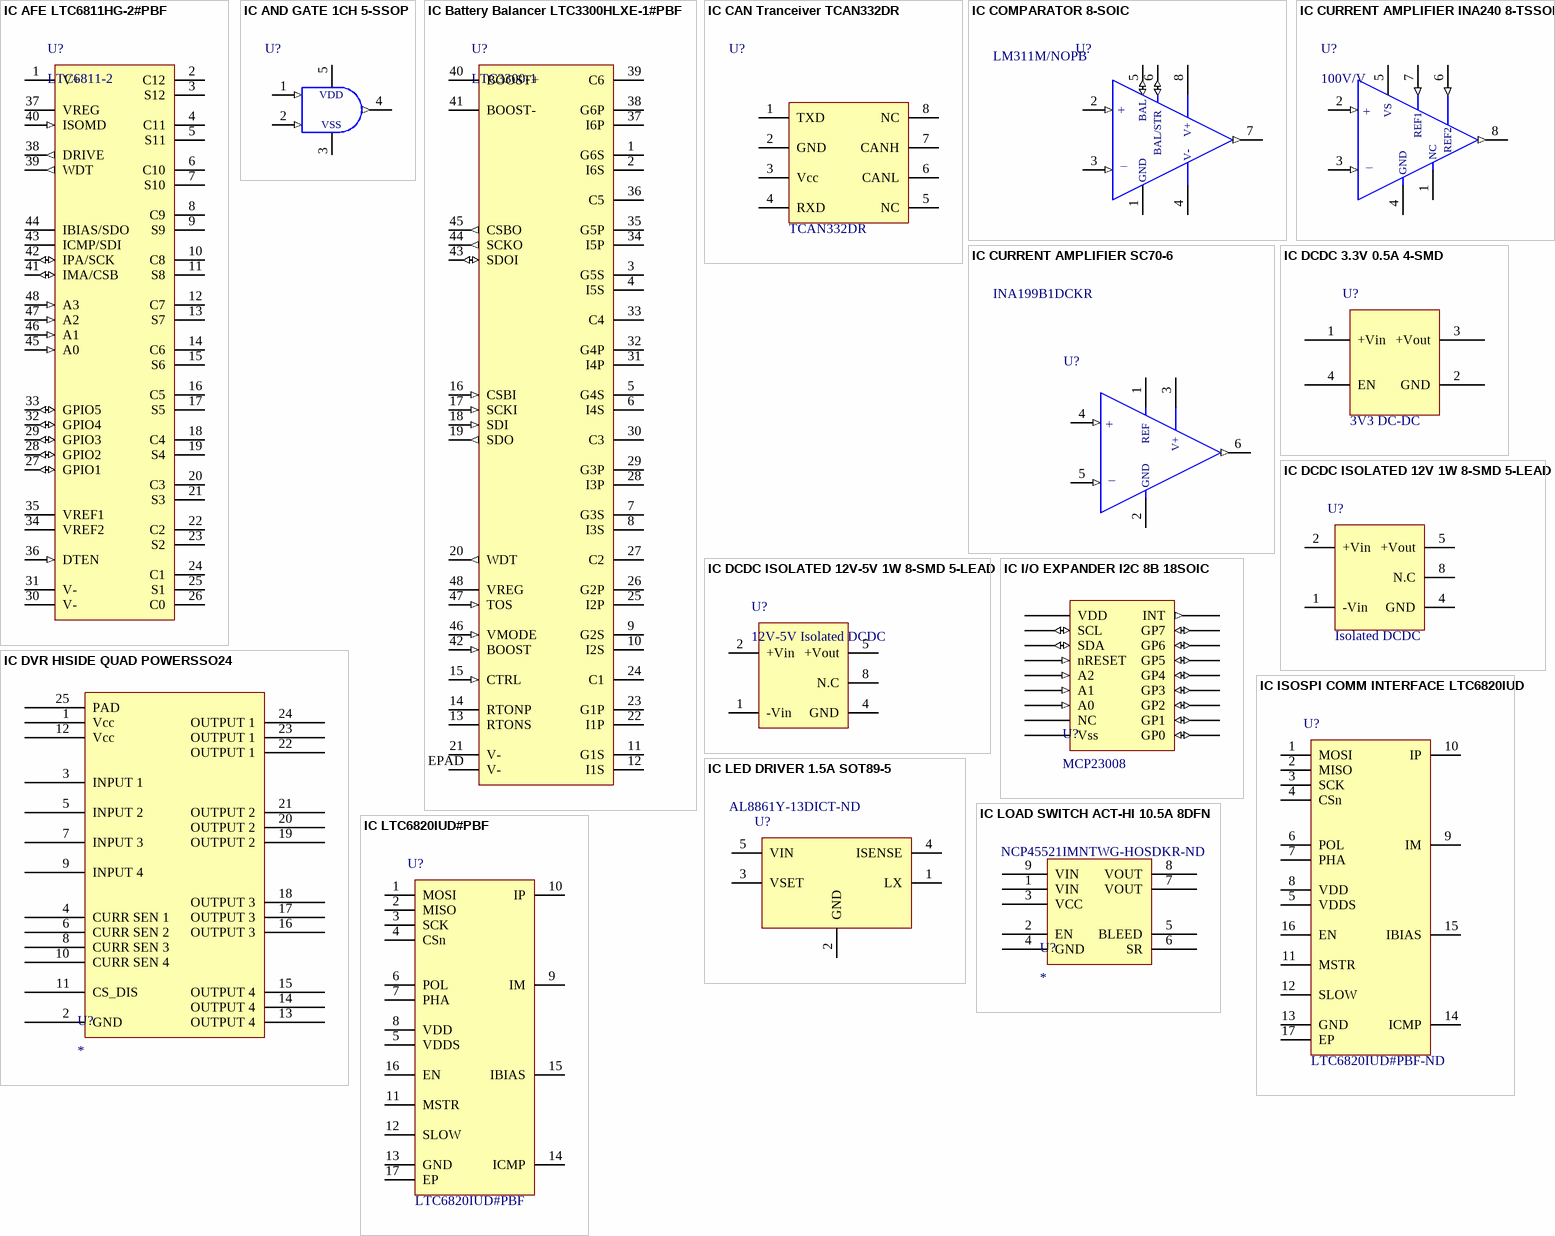
[diagram p2: symbols IC AFE LTC6811HG-2#PBF to IC LTC6820IUD#PBF]

## IC AFE LTC6811HG-2#PBF
designator U?, comment LTC6811-2
IC MONITOR BATT STACK 48SSOP; Manufacturer: Linear Technology; Manufacturer Part Number: LTC6811HG-2#PBF; Digikey Part Number: LTC6811HG-2#PBF-ND; Supplier 1: Digi-Key; Supplier Part Number 1: LTC6811HG-2#PBF-ND
pins: 1 V+ (power), 2 C12, 3 S12, 4 C11, 5 S11, 6 C10, 7 S10, 8 C9, 9 S9, 10 C8, 11 S8, 12 C7, 13 S7, 14 C6, 15 S6, 16 C5, 17 S5, 18 C4, 19 S4, 20 C3, 21 S3, 22 C2, 23 S2, 24 C1, 25 S1, 26 C0, 27 GPIO1 (io), 28 GPIO2 (io), 29 GPIO3 (io), 30 V- (power), 31 V- (power), 32 GPIO4 (io), 33 GPIO5 (io), 34 VREF2 (power), 35 VREF1 (power), 36 DTEN (in), 37 VREG (power), 38 DRIVE (out), 39 WDT (out), 40 ISOMD (in), 41 IMA/CSB (io), 42 IPA/SCK (io), 43 ICMP/SDI, 44 IBIAS/SDO, 45 A0 (in), 46 A1 (in), 47 A2 (in), 48 A3 (in)

## IC AND GATE 1CH 5-SSOP
designator U?
AND Gate IC 1 Channel 5-SSOP; Manufacturer 1: Rohm Semiconductor; Manufacturer Part Number 1: BU4S81G2-TR; Number of Circuits: 1; Number of Inputs: 2; Voltage - Supply: 3 V ~ 16 V; Current - Quiescent (Max): 1µA; Current - Output High, Low: 3.4mA, 3.4mA; Logic Level - Low: 1.5 V ~ 4 V; Logic Level - High: 3.5 V ~ 11 V; Max Propagation Delay @ V, Max CL: 30ns @ 15V, 50pF; Supplier 1: Digi-Key; Supplier Part Number 1: BU4S81G2CT-ND; Packaging: Cut Tape (CT); Part Status: Active; Operating Temperature: -40°C ~ 85°C; Mounting Type: Surface Mount; Supplier Device Package: 5-SSOP; Package / Case: SC-74A, SOT-753; ComponentLink1URL: http://rohmfs.rohm.com/en/products/databook/datasheet/ic/logic_switch/standard_logic/bu4s81g2-e.pdf; ComponentLink1Description: http://rohmfs.rohm.com/en/products/databook/datasheet/ic/logic_switch/standard_logic/bu4s81g2-e.pdf; Logic Type: AND Gate
footprint IC, 2-Input AND Gate (IC GATE AND 1CH 2-INP 5-SSOP)
pins: 1 A (in), 2 B (in), 3 GND (power), 4 Y (out), 5 VCC (power)
text: VDD; VSS

## IC Battery Balancer LTC3300HLXE-1#PBF
designator U?, comment LTC3300-1
IC BATTERY BALANCER 48LQFP; Manufacturer: Linear Technology; Manufacturer Part Number: LTC3300HLXE-1#PBF; Supplier 1: Digi-Key; Supplier Part Number 1: LTC3300HLXE-1#PBF-ND
pins: 1 G6S, 2 I6S, 3 G5S, 4 I5S, 5 G4S, 6 I4S, 7 G3S, 8 I3S, 9 G2S, 10 I2S, 11 G1S, 12 I1S, 13 RTONS, 14 RTONP, 15 CTRL (in), 16 CSBI (in), 17 SCKI (in), 18 SDI (in), 19 SDO (out), 20 WDT (out), 21 V- (power), 22 I1P, 23 G1P, 24 C1, 25 I2P, 26 G2P, 27 C2, 28 I3P, 29 G3P, 30 C3, 31 I4P, 32 G4P, 33 C4, 34 I5P, 35 G5P, 36 C5, 37 I6P, 38 G6P, 39 C6, 40 BOOST+, 41 BOOST-, 42 BOOST (in), 43 SDOI (io), 44 SCKO (out), 45 CSBO (out), 46 VMODE (in), 47 TOS (in), 48 VREG (power), EPAD V- (power)

## IC CAN Tranceiver TCAN332DR
designator U?  Manufacturer Part Number: TCAN332DR
1/1 Transceiver CAN 8-SOIC; Digikey Part Number: 296-43711-1-ND; Supplier 1: Digi-Key; Supplier Part Number 1: 296-43711-1-ND
footprint TSOP65P280X145-8N (TSOP, 8-Leads, Body 2.90x1.60mm, Pitch 0.65mm, IPC Medium Density)
pins: 1 TXD, 2 GND, 3 Vcc, 4 RXD, 5 NC, 6 CANL, 7 CANH, 8 NC

## IC COMPARATOR 8-SOIC
designator U?  Manufacturer Part Number 1: LM311M/NOPB
Comparator General Purpose DTL, MOS, Open-Collector, Open-Emitter, RTL, TTL 8-SOIC; Manufacturer 1: Texas Instruments; Voltage - Supply, Single/Dual (±): 5 V ~ 36 V, ±2.5 V ~ 18 V; Voltage - Input Offset (Max): 7.5mV @ ±15V; Current - Input Bias (Max): 0.25µA @ ±15V; Current - Quiescent (Max): 7.5mA; Supplier 1: Digi-Key; Supplier Part Number 1: LM311MNS/NOPB-ND; Packaging: Tube; Part Status: Active; Type: General Purpose; Output Type: DTL, MOS, Open-Collector, Open-Emitter, RTL, TTL; Current - Output (Typ): -; CMRR, PSRR (Typ): -; Propagation Delay (Max): -; Hysteresis: -; Operating Temperature: 0°C ~ 70°C; Package / Case: 8-SOIC (0.154", 3.90mm Width); Mounting Type: Surface Mount; Supplier Device Package: 8-SOIC; ComponentLink1URL: http://www.ti.com/lit/ds/symlink/lm311-n.pdf; ComponentLink1Description: http://www.ti.com/lit/ds/symlink/lm311-n.pdf
footprint SOIC8
pins: 1 GND (power), 2 +IN (in), 3 -IN (in), 4 V- (power), 5 BAL (io), 6 BAL/STR (io) "Balance/Strobe", 7 OUTPUT (out), 8 V+ (power)
text: +; _

## IC CURRENT AMPLIFIER INA240 8-TSSOP
designator U?, comment 100V/V
Current Sense Amplifier 1 Circuit 8-TSSOP; Manufacturer 1: Texas Instruments; Manufacturer Part Number 1: INA240A3PWR; Description 1: IC AMP CURRENT SENSE 8-TSSOP; Slew Rate: 2 V/µs; Current - Supply: 1.8mA; Voltage - Supply, Single/Dual (±): 2.7 V ~ 5.5 V; Supplier 1: Digi-Key; Supplier Part Number 1: 296-45090-1-ND; RoHS: RoHS Compliant; Category: Integrated Circuits (ICs); Stock 1: 1286; Pricing 1: 1=3.79, 10=3.397, 100=2.7311, 500=2.24388, 1000=1.85921 (CAD); Packaging: Cut Tape (CT); Part Status: Active; Amplifier Type: Current Sense; Output Type: -; Operating Temperature: -40°C ~ 125°C; Mounting Type: Surface Mount; Package / Case: 8-TSSOP (0.173", 4.40mm Width); Supplier Device Package: 8-TSSOP; ComponentLink1URL: http://www.ti.com/lit/ds/symlink/ina240.pdf; ComponentLink1Description: http://www.ti.com/lit/ds/symlink/ina240.pdf
footprint IC CURRENT AMPLIFIER INA240 TSSOP-8
pins: 1 NC (power) "Connect to GND", 2 +IN (in), 3 -IN (in), 4 GND (power), 5 VS (power), 6 REF2 (in) "Reference", 7 REF1 (in) "Reference", 8 OUTPUT (out)
text: +; _

## IC CURRENT AMPLIFIER SC70-6
designator U?  Manufacturer Part Number 1: INA199B1DCKR  (hidden comment: IC CURRENT AMPLIFIER SC70-6)
Current Sense Amplifier 1 Circuit SC-70-6; Manufacturer 1: Texas Instruments; Description 1: IC OPAMP CURR SENSE 80KHZ SC70-6; Number of Circuits: 1; Slew Rate: 0.4 V/µs; Current - Supply: 65µA; Voltage - Supply, Single/Dual (±): 2.7 V ~ 26 V; Supplier 1: Digi-Key; Supplier Part Number 1: 296-40118-1-ND; RoHS: RoHS Compliant; Category: Integrated Circuits (ICs); Stock 1: 6627; Pricing 1: 1=1.36, 10=1.197, 100=0.9177, 500=0.7255, 1000=0.58041 (CAD); Packaging: Cut Tape (CT); Part Status: Active; Amplifier Type: Current Sense; Output Type: -; -3db Bandwidth: -; Current - Output / Channel: -; Operating Temperature: -40°C ~ 125°C; Mounting Type: Surface Mount; Package / Case: 6-TSSOP, SC-88, SOT-363; Supplier Device Package: SC-70-6; ComponentLink1URL: http://www.ti.com/lit/ds/symlink/ina199.pdf; ComponentLink1Description: http://www.ti.com/lit/ds/symlink/ina199.pdf
footprint IC OP AMP CURR SENSE 80KHZ SC70-6
pins: 1 REF "Reference", 2 GND (power), 3 V+ (power), 4 +IN (in), 5 -IN (in), 6 OUTPUT (out)
text: +; _

## IC DCDC 3.3V 0.5A 4-SMD
designator U?
Non-isolated PoL DC-DC Module 3.3V Output 0.5A 5-36V Input; Manufacturer: Recom Power; Manufacturer Part Number: ROF-78E3.3-0.5SMD-R; Number of Outputs: 1; Voltage - Input (Min): 5V; Voltage - Input (Max): 36V; Current - Output (Max): 500mA; Efficiency: 84%; Supplier 1: Digi-Key; RoHS: RoHS Compliant; Category: Power Supplies - Board Mount; Stock 1: 2290; Packaging: Cut Tape (CT); Part Status: Active; Type: Non-Isolated PoL Module; Voltage - Output 1: 3.3V; Voltage - Output 2: -; Voltage - Output 3: -; Voltage - Isolation: -; Applications: ITE (Commercial); Features: SCP; Operating Temperature: -40°C ~ 75°C; Mounting Type: Surface Mount; Package / Case: 4-SMD Module; Size / Dimension: 0.53" L x 0.49" W x 0.18" H (13.5mm x 12.5mm x 4.5mm); ComponentLink1URL: https://www.recom-power.com/pdf/Innoline/ROF-78Exx-0.5.pdf; ComponentLink1Description: https://www.recom-power.com/pdf/Innoline/ROF-78Exx-0.5.pdf; Supplier Part Number 1: 945-1689-1-ND; Pricing 1: 1=4.97, 5=4.906, 10=4.836, 25=4.6944, 50=4.5516, 100=4.4094, 250=4.26728 (CAD)
footprint IC DCDC 3.3V 0.5A 4-SMD
pins: 1 +Vin, 2 GND, 3 +Vout, 4 EN
text: 3V3 DC-DC

## IC DCDC ISOLATED 12V 1W 8-SMD 5-LEAD
designator U?  Type: Isolated DCDC
Isolated Module DC DC Converter 1 Output 12V 84mA 10.8V - 13.2V Input; Manufacturer 1: XP Power; Manufacturer Part Number 1: ISE1212A; Number of Outputs: 1; Voltage - Isolation: 1.5kV (1500V); Efficiency: 81%; Power: 1W; Supplier 1: Digi-Key; Supplier Part Number 1: 1470-2950-1-ND; Packaging: Cut Tape (CT); Part Status: Active; Voltage - Input (Min): 10.8V; Voltage - Input (Max): 13.2V; Voltage - Output 1: 12V; Voltage - Output 2: -; Voltage - Output 3: -; Current - Output (Max): 84mA; Operating Temperature: -40°C ~ 105°C; Mounting Type: Surface Mount; Package / Case: 8-SMD Module, 5 Leads; Size / Dimension: 0.50" L x 0.44" W x 0.29" H (12.7mm x 11.2mm x 7.3mm); ComponentLink1URL: http://www.xppower.com/Portals/0/pdfs/SF_ISE.pdf; ComponentLink1Description: http://www.xppower.com/Portals/0/pdfs/SF_ISE.pdf
footprint IC, Isolated DCDC
pins: 1 -Vin, 2 +Vin, 4 GND, 5 +Vout, 8 N.C

## IC DCDC ISOLATED 12V-5V 1W 8-SMD 5-LEAD
designator U?, comment 12V-5V Isolated DCDC
Isolated Module DC DC Converter 1 Output 5V 200mA 10.8V - 13.2V Input; Manufacturer 1: XP Power; Manufacturer Part Number 1: ISE1205A; Description 1: DC/DC CONV 5V 1W; Efficiency: 80%; Supplier 1: Digi-Key; Supplier Part Number 1: 1470-2948-1-ND; RoHS: RoHS Compliant; Category: Power Supplies - Board Mount; Stock 1: 774; Pricing 1: 1=6.52, 5=6.322, 10=6.126, 25=5.8652, 100=5.4739 (CAD); Packaging: Cut Tape (CT); Part Status: Active; Type: Isolated Module; Voltage - Input (Min): 10.8V; Voltage - Input (Max): 13.2V; Voltage - Output 1: 5V; Voltage - Output 2: -; Voltage - Output 3: -; Current - Output (Max): 200mA; Applications: ITE (Commercial); Features: SCP; Operating Temperature: -40°C ~ 105°C; Mounting Type: Surface Mount; Package / Case: 8-SMD Module, 5 Leads; Size / Dimension: 0.50" L x 0.44" W x 0.29" H (12.7mm x 11.2mm x 7.3mm); ComponentLink1URL: http://www.xppower.com/Portals/0/pdfs/SF_ISE.pdf; ComponentLink1Description: http://www.xppower.com/Portals/0/pdfs/SF_ISE.pdf
footprint IC, Isolated DCDC
pins: 1 -Vin, 2 +Vin, 4 GND, 5 +Vout, 8 N.C

## IC DVR HISIDE QUAD POWERSSO24
designator U?
Manufacturer: STMicroelectronics; Manufacturer Part Number: VNQ5050AKTR-E; Switch Type: General Purpose; Number of Outputs: 4; Ratio - Input:Output: 1:1; Output Configuration: High Side; Output Type: N-Channel; Interface: On/Off; Voltage - Load: 4.5 V ~ 36 V; Voltage - Supply (Vcc/Vdd): Not Required; Current - Output (Max): 13.5A; Rds On (Typ): 50 mOhm (Max); Input Type: Non-Inverting; Fault Protection: Current Limiting (Fixed), Over Temperature, Over Voltage; Supplier 1: Digi-Key; RoHS: RoHS Compliant; Category: Integrated Circuits (ICs); Stock 1: 409; Pricing 1: 1=7.53, 10=6.765, 100=5.5429, 500=4.71858 (CAD); Packaging: Cut Tape (CT); Part Status: Active; Features: -; Operating Temperature: -40°C ~ 150°C (TJ); Package / Case: 24-SOP (0.295", 7.50mm Width) Exposed Pad; Supplier Device Package: PowerSSO-24; Base Part Number: VNQ5050; ComponentLink1URL: http://www.st.com/content/ccc/resource/technical/document/datasheet/ca/3e/7c/01/e8/ad/4c/de/CD00154145.pdf/files/CD00154145.pdf/jcr:content/translations/en.CD00154145.pdf; ComponentLink1Description: http://www.st.com/content/ccc/resource/technical/document/datasheet/ca/3e/7c/01/e8/ad/4c/de/CD00154145.pdf/files/CD00154145.pdf/jcr:content/translations/en.CD00154145.pdf
footprint IC DVR HISIDE QUAD POWERSSO24 (VNQ5050AKTR-E)
pins: 1 Vcc, 2 GND, 3 INPUT 1, 4 CURR SEN 1, 5 INPUT 2, 6 CURR SEN 2, 7 INPUT 3, 8 CURR SEN 3, 9 INPUT 4, 10 CURR SEN 4, 11 CS_DIS, 12 Vcc, 13 OUTPUT 4, 14 OUTPUT 4, 15 OUTPUT 4, 16 OUTPUT 3, 17 OUTPUT 3, 18 OUTPUT 3, 19 OUTPUT 2, 20 OUTPUT 2, 21 OUTPUT 2, 22 OUTPUT 1, 23 OUTPUT 1, 24 OUTPUT 1, 25 PAD

## IC I/O EXPANDER I2C 8B 18SOIC
designator U?, comment MCP23008
MCP23008 I/O Expander 8B+1Int 18P SOIC; Manufacturer: Microchip Technology; Manufacturer Part Number: MCP23008T-E/SO; Number of I/O: 8; Interface: I²C; Interrupt Output: Yes; Output Type: Push-Pull; Current - Output Source/Sink: 25mA; Voltage - Supply: 1.8 V ~ 5.5 V; Supplier 1: Digi-Key; Supplier Part Number 1: MCP23008T-E/SOCT-ND; RoHS: RoHS Compliant; Category: Integrated Circuits (ICs); Stock 1: 5607; Pricing 1: 1=1.62, 25=1.3548, 100=1.2431 (CAD); Packaging: Cut Tape (CT); Part Status: Active; Features: POR; Operating Temperature: -40°C ~ 125°C; Mounting Type: Surface Mount; Package / Case: 18-SOIC (0.295", 7.50mm Width); Supplier Device Package: 18-SOIC; ComponentLink1URL: http://www.microchip.com/mymicrochip/filehandler.aspx?ddocname=en021920; ComponentLink1Description: http://www.microchip.com/mymicrochip/filehandler.aspx?ddocname=en021920
footprint IC 18SOIC
pins: 1 SCL (io), 2 SDA (io), 3 A2 (in), 4 A1 (in), 5 A0 (in), 6 nRESET (in), 7 NC, 8 INT (out), 9 Vss (power), 10 GP0 (io), 11 GP1 (io), 12 GP2 (io), 13 GP3 (io), 14 GP4 (io), 15 GP5 (io), 16 GP6 (io), 17 GP7 (io), 18 VDD (power)

## IC ISOSPI COMM INTERFACE LTC6820IUD
designator U?  Supplier Part Number 1: LTC6820IUD#PBF-ND  (hidden comment: *)
IC COMM INTERFACE ISOSPI 16-QFN; Manufacturer: Linear Technology; Manufacturer Part Number: LTC6820IUD#PBF; Interface: SPI; Voltage - Supply: 2.7 V ~ 5.5 V; Supplier 1: Digi-Key; RoHS: RoHS Compliant; Category: Integrated Circuits (ICs); Stock 1: 827; Pricing 1: 1=7.35, 25=4.8816, 100=4.0066 (CAD); Packaging: Tube; Part Status: Active; Applications: Isolated Communications Interface; Package / Case: 16-WFQFN Exposed Pad; Supplier Device Package: 16-QFN (3x3); Mounting Type: Surface Mount; ComponentLink1URL: http://www.linear.com/docs/42317; ComponentLink1Description: http://www.linear.com/docs/42317
footprint IC COMM INTERFACE ISOSPI 16-QFN (16-WFQFN Exposed Pad)
pins: 1 MOSI, 2 MISO, 3 SCK, 4 CSn, 5 VDDS, 6 POL, 7 PHA, 8 VDD, 9 IM, 10 IP, 11 MSTR, 12 SLOW, 13 GND, 14 ICMP, 15 IBIAS, 16 EN, 17 EP

## IC LED DRIVER 1.5A SOT89-5
designator U?  Supplier Part Number 1: AL8861Y-13DICT-ND  (hidden comment: *)
LED Driver IC 1 Output DC DC Regulator Step-Down (Buck) Analog, PWM Dimming 1.5A SOT-89-5; Manufacturer: Diodes Incorporated; Manufacturer Part Number: AL8861Y-13; Internal Switch(s): Yes; Number of Outputs: 1; Voltage - Supply (Min): 4.5V; Voltage - Supply (Max): 40V; Voltage - Output: 36V; Frequency: 1MHz; Supplier 1: Digi-Key; RoHS: RoHS Compliant; Category: Integrated Circuits (ICs); Stock 1: 4754; Pricing 1: 1=0.96, 10=0.827, 100=0.6177, 500=0.48536, 1000=0.37505 (CAD); Packaging: Cut Tape (CT); Part Status: Active; Type: DC DC Regulator; Topology: Step-Down (Buck); Current - Output / Channel: 1.5A; Dimming: Analog, PWM; Applications: Backlight, Lighting, Signage; Operating Temperature: -40°C ~ 85°C (TA); Mounting Type: Surface Mount; Package / Case: SOT-89-5/6; Supplier Device Package: SOT-89-5; ComponentLink1URL: https://www.diodes.com/assets/Datasheets/AL8861.pdf; ComponentLink1Description: https://www.diodes.com/assets/Datasheets/AL8861.pdf
footprint IC LED DRIVER 1.5A SOT89-5
pins: 1 LX, 2 GND, 3 VSET, 4 ISENSE, 5 VIN

## IC LOAD SWITCH ACT-HI 10.5A 8DFN
designator U?  Supplier Part Number 2: NCP45521IMNTWG-HOSDKR-ND
NCP45521IMNTWG-H; Manufacturer: ON Semiconductor; Switch Type: General Purpose; Number of Outputs: 1; Ratio - Input:Output: 1:1; Output Configuration: High Side; Output Type: N-Channel; Interface: On/Off; Voltage - Load: 0.5 V ~ 13.5 V; Voltage - Supply (Vcc/Vdd): 3 V ~ 5.5 V; Current - Output (Max): 10.5A; Rds On (Typ): 12.8 mOhm; Input Type: Non-Inverting; Fault Protection: Over Temperature, UVLO; Manufacturer Part Number: NCP45521IMNTWG-H; RoHS: RoHS Compliant; Category: Integrated Circuits (ICs); Packaging: Digi-Reel®; Part Status: Active; Features: Slew Rate Controlled; Operating Temperature: -40°C ~ 85°C (TA); Package / Case: 8-VFDFN Exposed Pad; Supplier Device Package: 8-DFN (2x2); ComponentLink1URL: http://www.onsemi.com/pub/Collateral/NCP45520-D.PDF; ComponentLink1Description: http://www.onsemi.com/pub/Collateral/NCP45520-D.PDF; Supplier 1: Digi-Key; Stock 1: 2377; Pricing 1: 1=1.57, 10=1.405, 100=1.0957, 500=0.90518, 1000=0.71462 (CAD); Supplier 2: Digi-Key; Stock 2: 2211; Pricing 2: 1=1.53, 10=1.372, 100=1.0702, 500=0.88408, 1000=0.69797 (CAD)
footprint IC LOAD SWITCH ACT-HI 10.5A 8DFN
pins: 1 VIN, 2 EN, 3 VCC, 4 GND, 5 BLEED, 6 SR, 7 VOUT, 8 VOUT, 9 VIN

## IC LTC6820IUD#PBF
designator U?  Manufacturer_PN: LTC6820IUD#PBF  (hidden comment: *)
IC COMM INTERFACE ISOSPI 16-QFN; Manufacturer: Linear Technology; Supplier: Digikey; Supplier_PN: LTC6820IUD#PBF-ND; Supplier 1: Digi-Key; Supplier Part Number 1: LTC6820IUD#PBF-ND
pins: 1 MOSI, 2 MISO, 3 SCK, 4 CSn, 5 VDDS, 6 POL, 7 PHA, 8 VDD, 9 IM, 10 IP, 11 MSTR, 12 SLOW, 13 GND, 14 ICMP, 15 IBIAS, 16 EN, 17 EP

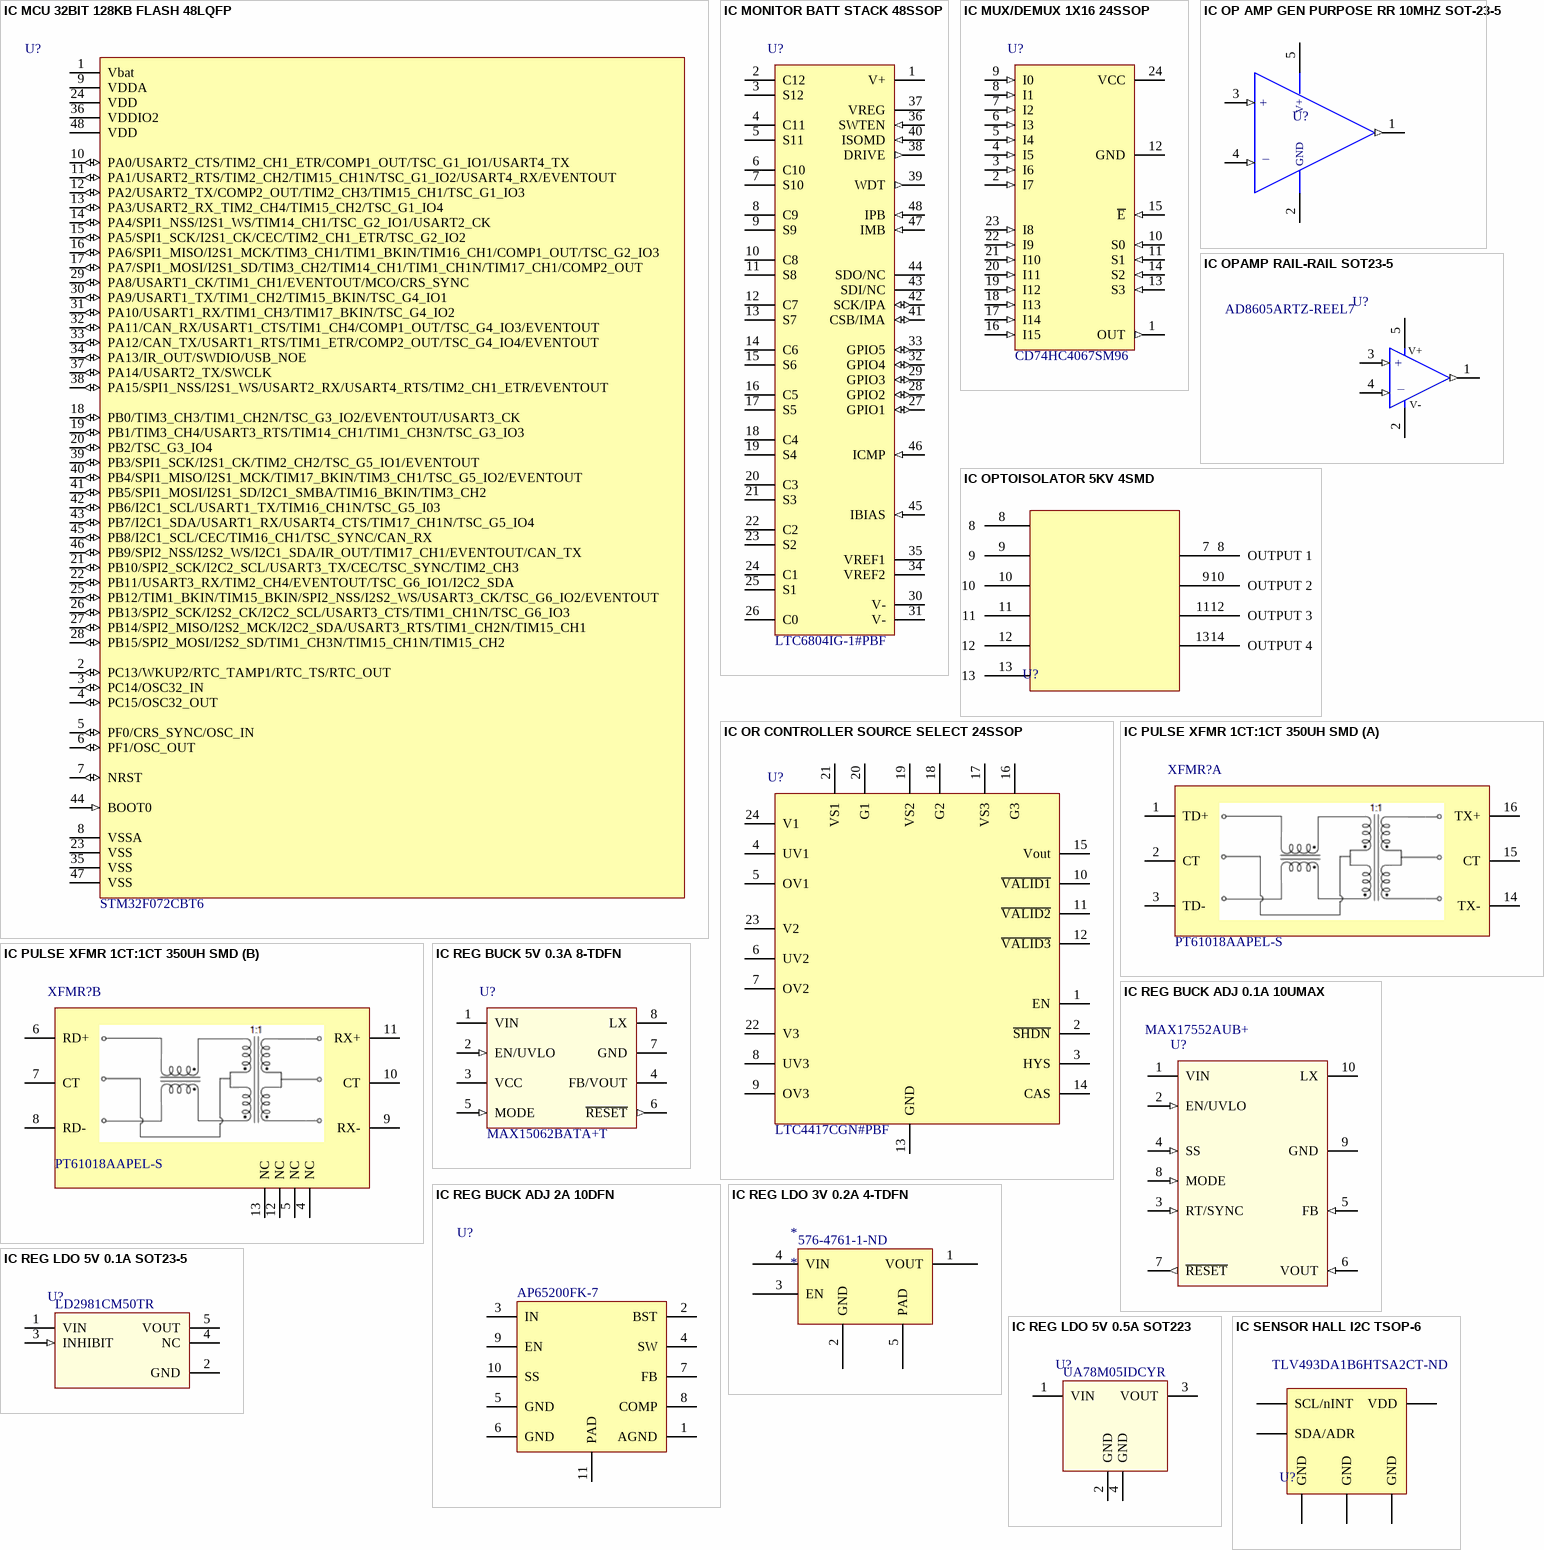
[diagram p3: symbols IC MCU 32BIT 128KB FLASH 48LQFP to IC SENSOR HALL I2C TSOP-6]

## IC MCU 32BIT 128KB FLASH 48LQFP
designator U?  Manufacturer Part Number 1: STM32F072CBT6
ARM® Cortex®-M0 STM32 F0 Microcontroller IC 32-Bit 48MHz 128KB (128K x 8) FLASH 48-LQFP (7x7); Manufacturer 1: STMicroelectronics; Connectivity: CAN, HDMI-CEC, I²C, IrDA, LIN, SPI, UART/USART, USB; Peripherals: DMA, I²S, POR, PWM, WDT; Number of I/O: 37; RAM Size: 16K x 8; Voltage - Supply (Vcc/Vdd): 1.65 V ~ 3.6 V; Data Converters: A/D 10x12b, D/A 2x12b; Oscillator Type: Internal; Supplier 1: Digi-Key; Supplier Part Number 1: 497-14645-ND; Packaging: Tray; Part Status: Active; Core Processor: ARM® Cortex®-M0; Core Size: 32-Bit; Speed: 48MHz; Program Memory Size: 128KB (128K x 8); Program Memory Type: FLASH; EEPROM Size: -; Operating Temperature: -40°C ~ 85°C (TA); Package / Case: 48-LQFP; Supplier Device Package: 48-LQFP (7x7); ComponentLink1URL: http://www.st.com/content/ccc/resource/technical/document/datasheet/cd/46/43/83/22/d3/40/c8/DM00090510.pdf/files/DM00090510.pdf/jcr:content/translations/en.DM00090510.pdf; ComponentLink1Description: http://www.st.com/content/ccc/resource/technical/document/datasheet/cd/46/43/83/22/d3/40/c8/DM00090510.pdf/files/DM00090510.pdf/jcr:content/translations/en.DM00090510.pdf
footprint TSQFP50P890X890X160-48M (TSQFP, 48-Leads, Body 7.00x7.00mm, Pitch 0.50mm, IPC Low Density)
pins: 1 Vbat (power), 2 PC13/WKUP2/RTC_TAMP1/RTC_TS/RTC_OUT (io), 3 PC14/OSC32_IN (io), 4 PC15/OSC32_OUT (io), 5 PF0/CRS_SYNC/OSC_IN (io), 6 PF1/OSC_OUT (io), 7 NRST (io), 8 VSSA (power), 9 VDDA (power), 10 PA0/USART2_CTS/TIM2_CH1_ETR/COMP1_OUT/TSC_G1_IO1/USART4_TX (io), 11 PA1/USART2_RTS/TIM2_CH2/TIM15_CH1N/TSC_G1_IO2/USART4_RX/EVENTOUT (io), 12 PA2/USART2_TX/COMP2_OUT/TIM2_CH3/TIM15_CH1/TSC_G1_IO3 (io), 13 PA3/USART2_RX_TIM2_CH4/TIM15_CH2/TSC_G1_IO4 (io), 14 PA4/SPI1_NSS/I2S1_WS/TIM14_CH1/TSC_G2_IO1/USART2_CK (io), 15 PA5/SPI1_SCK/I2S1_CK/CEC/TIM2_CH1_ETR/TSC_G2_IO2 (io), 16 PA6/SPI1_MISO/I2S1_MCK/TIM3_CH1/TIM1_BKIN/TIM16_CH1/COMP1_OUT/TSC_G2_IO3 (io), 17 PA7/SPI1_MOSI/I2S1_SD/TIM3_CH2/TIM14_CH1/TIM1_CH1N/TIM17_CH1/COMP2_OUT (io), 18 PB0/TIM3_CH3/TIM1_CH2N/TSC_G3_IO2/EVENTOUT/USART3_CK (io), 19 PB1/TIM3_CH4/USART3_RTS/TIM14_CH1/TIM1_CH3N/TSC_G3_IO3 (io), 20 PB2/TSC_G3_IO4 (io), 21 PB10/SPI2_SCK/I2C2_SCL/USART3_TX/CEC/TSC_SYNC/TIM2_CH3 (io), 22 PB11/USART3_RX/TIM2_CH4/EVENTOUT/TSC_G6_IO1/I2C2_SDA (io), 23 VSS (power), 24 VDD (power), 25 PB12/TIM1_BKIN/TIM15_BKIN/SPI2_NSS/I2S2_WS/USART3_CK/TSC_G6_IO2/EVENTOUT (io), 26 PB13/SPI2_SCK/I2S2_CK/I2C2_SCL/USART3_CTS/TIM1_CH1N/TSC_G6_IO3 (io), 27 PB14/SPI2_MISO/I2S2_MCK/I2C2_SDA/USART3_RTS/TIM1_CH2N/TIM15_CH1 (io), 28 PB15/SPI2_MOSI/I2S2_SD/TIM1_CH3N/TIM15_CH1N/TIM15_CH2 (io), 29 PA8/USART1_CK/TIM1_CH1/EVENTOUT/MCO/CRS_SYNC (io), 30 PA9/USART1_TX/TIM1_CH2/TIM15_BKIN/TSC_G4_IO1 (io), 31 PA10/USART1_RX/TIM1_CH3/TIM17_BKIN/TSC_G4_IO2 (io), 32 PA11/CAN_RX/USART1_CTS/TIM1_CH4/COMP1_OUT/TSC_G4_IO3/EVENTOUT (io), 33 PA12/CAN_TX/USART1_RTS/TIM1_ETR/COMP2_OUT/TSC_G4_IO4/EVENTOUT (io), 34 PA13/IR_OUT/SWDIO/USB_NOE (io), 35 VSS (power), 36 VDDIO2 (power), 37 PA14/USART2_TX/SWCLK (io), 38 PA15/SPI1_NSS/I2S1_WS/USART2_RX/USART4_RTS/TIM2_CH1_ETR/EVENTOUT (io), 39 PB3/SPI1_SCK/I2S1_CK/TIM2_CH2/TSC_G5_IO1/EVENTOUT (io), 40 PB4/SPI1_MISO/I2S1_MCK/TIM17_BKIN/TIM3_CH1/TSC_G5_IO2/EVENTOUT (io), 41 PB5/SPI1_MOSI/I2S1_SD/I2C1_SMBA/TIM16_BKIN/TIM3_CH2 (io), 42 PB6/I2C1_SCL/USART1_TX/TIM16_CH1N/TSC_G5_I03 (io), 43 PB7/I2C1_SDA/USART1_RX/USART4_CTS/TIM17_CH1N/TSC_G5_IO4 (io), 44 BOOT0 (in), 45 PB8/I2C1_SCL/CEC/TIM16_CH1/TSC_SYNC/CAN_RX (io), 46 PB9/SPI2_NSS/I2S2_WS/I2C1_SDA/IR_OUT/TIM17_CH1/EVENTOUT/CAN_TX (io), 47 VSS (power), 48 VDD (power)

## IC MONITOR BATT STACK 48SSOP
designator U?  Manufacturer Part Number 1: LTC6804IG-1#PBF
Battery Battery Monitor IC Multi-Chemistry 48-SSOP; Manufacturer 1: Linear Technology; Number of Cells: 1 ~ 12; Fault Protection: Over/Under Voltage; Interface: I²C, SPI; Supplier 1: Digi-Key; Supplier Part Number 1: LTC6804IG-1#PBF-ND; Packaging: Tube; Part Status: Active; Function: Battery Monitor; Battery Chemistry: Multi-Chemistry; Operating Temperature: -40°C ~ 85°C (TA); Package / Case: 48-FSOP (0.209", 5.30mm Width); Supplier Device Package: 48-SSOP; ComponentLink1URL: http://www.linear.com/docs/43171; ComponentLink1Description: http://www.linear.com/docs/43171
footprint SSOP50P780X200-48N (SSOP, 48-Leads, Body 12.80x5.30mm, Pitch 0.50mm, IPC Medium Density)
pins: 1 V+ (power), 2 C12, 3 S12, 4 C11, 5 S11, 6 C10, 7 S10, 8 C9, 9 S9, 10 C8, 11 S8, 12 C7, 13 S7, 14 C6, 15 S6, 16 C5, 17 S5, 18 C4, 19 S4, 20 C3, 21 S3, 22 C2, 23 S2, 24 C1, 25 S1, 26 C0, 27 GPIO1 (io), 28 GPIO2 (io), 29 GPIO3 (io), 30 V- (power), 31 V- (power), 32 GPIO4 (io), 33 GPIO5 (io), 34 VREF2 (power), 35 VREF1 (power), 36 SWTEN (in), 37 VREG (power), 38 DRIVE (out), 39 WDT (out), 40 ISOMD (in), 41 CSB/IMA (io), 42 SCK/IPA (io), 43 SDI/NC, 44 SDO/NC, 45 IBIAS (in), 46 ICMP (in), 47 IMB (in), 48 IPB (in)

## IC MUX/DEMUX 1X16 24SSOP
designator U?  Manufacturer Part Number 1: CD74HC4067SM96
1 Circuit IC Switch 16:1 160 Ohm 24-SSOP; Manufacturer 1: Texas Instruments; Number of Circuits: 1; On-State Resistance (Max): 160 Ohm; Channel-to-Channel Matching (&Delta;Ron): 8.5 Ohm; Voltage - Supply, Single (V+): 2 V ~ 6 V; Switch Time (Ton, Toff) (Max): 51ns, 49ns; -3db Bandwidth: 89MHz; Channel Capacitance (CS(off), CD(off)): 5pF, 50pF; Current - Leakage (IS(off)) (Max): 800nA; Supplier 1: Digi-Key; Supplier Part Number 1: 296-9226-1-ND; Packaging: Cut Tape (CT); Part Status: Active; Switch Circuit: -; Multiplexer/Demultiplexer Circuit: 16:1; Voltage - Supply, Dual (V±): -; Charge Injection: -; Crosstalk: -; Operating Temperature: -55°C ~ 125°C (TA); Package / Case: 24-SSOP (0.209", 5.30mm Width); Supplier Device Package: 24-SSOP; ComponentLink1URL: http://www.ti.com/lit/ds/symlink/cd74hc4067.pdf; ComponentLink1Description: http://www.ti.com/lit/ds/symlink/cd74hc4067.pdf
footprint SOP127P1030X265-24N (SOP, 24-Leads, Body 15.40x7.50mm, Pitch 1.27mm, IPC Medium Density)
pins: 1 OUT (out), 2 I7 (in), 3 I6 (in), 4 I5 (in), 5 I4 (in), 6 I3 (in), 7 I2 (in), 8 I1 (in), 9 I0 (in), 10 S0 (in), 11 S1 (in), 12 GND (power), 13 S3 (in), 14 S2 (in), 15 ~{E} (in), 16 I15 (in), 17 I14 (in), 18 I13 (in), 19 I12 (in), 20 I11 (in), 21 I10 (in), 22 I9 (in), 23 I8 (in), 24 VCC (power)